# Altium footprint library 966140-5F.PcbLib: 1 footprints
Each footprint in its own frame and in the unit in brackets; x right, y up, seen from the top. Pads: shape width x height; smd on the part's side, far side on the other; paste and mask are expansions set on the pad; w line width, h text height; cw(c..) or ccw(c..) is an arc to the next point about the centre after c.
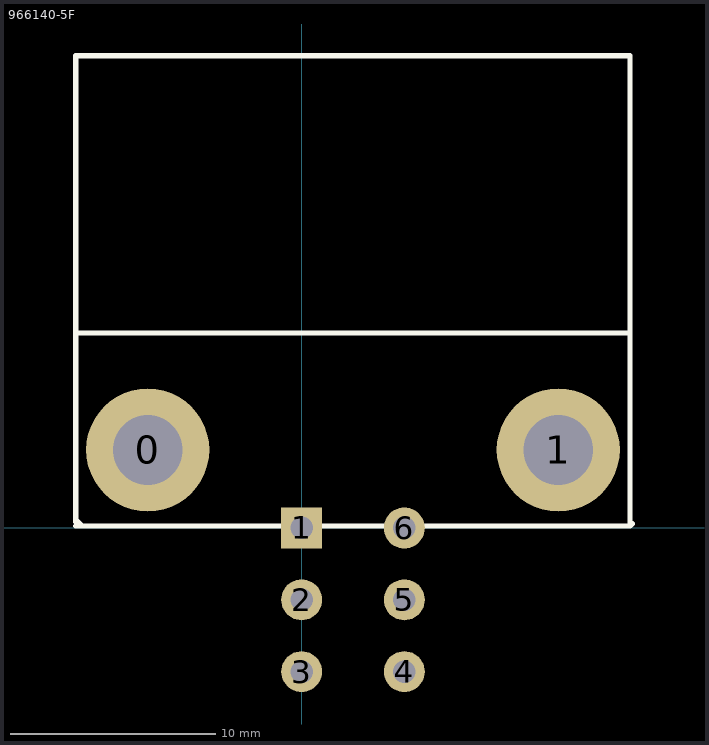
[diagram p0: the footprint, top view; thin cyan lines are the x and y axes]

## 966140-5F [mm]
pads (8):
  round 6 hole 3.4: 0(-7.5,3.8) 1(12.5,3.8)
  rect 2x2 hole 1.1: 1(0,0)
  round 2 hole 1.1: 2(0,-3.5) 3(0,-7) 4(5,-7) 5(5,-3.5) 6(5,0)
Top Overlay:
  lines w0.254: -11,0.1 16,0.1 ; -11,0.3 -11,9.5 ; -11,22.9 -11,9.5 ; -11,23 16,23 16,9.6 16,0.1 ; -10.9,0.3 -10.7,0.1 ; 16,9.5 -11,9.5 ; 16.1,0.2 16,0.1